# EAGLE library part 6PIN-ICSP (library CharlieCreations)
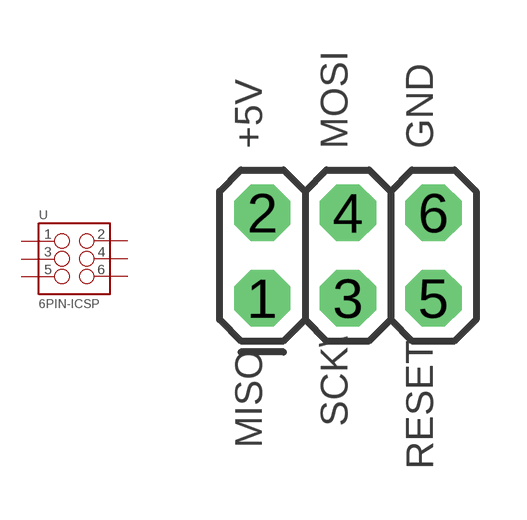
[diagram p10: symbol with the pads of 2X3-ICSP; footprint 2X3-ICSP]

Designator prefix -

## 6PIN-ICSP  [2X3-ICSP]
1  MISO
2  +5V  pwr
3  SCK
4  MOSI
5  RESET
6  GND  pwr

## Footprint 2X3-ICSP (pad centres in mm)
drill 0.826 pad 1.676 octagon: 1 -2.54,-1.27; 2 -2.54,1.27; 3 0,-1.27; 4 0,1.27; 5 2.54,-1.27; 6 2.54,1.27